# Altium schematic symbol library U_LTC7003.SchLib: 1 symbol
Pins are listed as number, name and electrical type; pins without a type are passive.

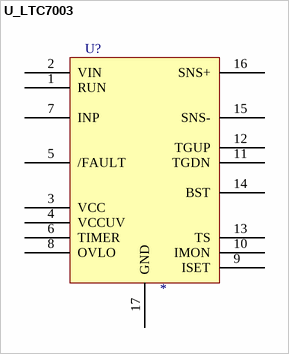
[diagram p0: symbol U_LTC7003]

## U_LTC7003
designator U?
pins: 1 RUN, 2 VIN, 3 VCC, 4 VCCUV, 5 /FAULT, 6 TIMER, 7 INP, 8 OVLO, 9 ISET, 10 IMON, 11 TGDN, 12 TGUP, 13 TS, 14 BST, 15 SNS-, 16 SNS+, 17 GND